# Altium schematic symbol library U_TPS709.SchLib: 1 symbol
Pins are listed as number, name and electrical type; pins without a type are passive.

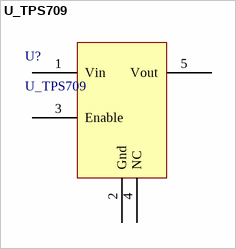
[diagram p0: symbol U_TPS709]

## U_TPS709
designator U?
pins: 1 Vin, 2 Gnd, 3 Enable, 4 NC, 5 Vout